# EAGLE library part HEF4030BT (library NXP_By_element14_Batch_1)
Quadruple exclusive-OR gate
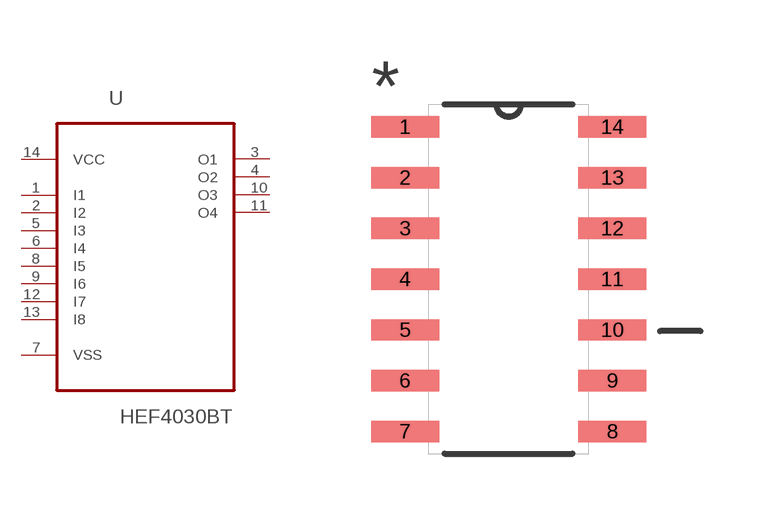
[diagram p250: symbol with the pads of SOIC127P600X175-14N; footprint SOIC127P600X175-14N]

Designator prefix U

## HEF4030BT (MPN: HEF4030BT; OC_FARNELL: 1201267; OC_NEWARK: 25M9616; PACKAGE: SOIC-14; SUPPLIER: NXP)  [SOIC127P600X175-14N]
1  I1  in
2  I2  in
3  O1  out
4  O2  out
5  I3  in
6  I4  in
7  VSS  pas
8  I5  in
9  I6  in
10  O3  out
11  O4  out
12  I7  in
13  I8  in
14  VCC  pwr

## Footprint SOIC127P600X175-14N (pad centres in mm)
smd 1.702 x 0.533: 1 -2.591,3.81; 2 -2.591,2.54; 3 -2.591,1.27; 4 -2.591,0; 5 -2.591,-1.27; 6 -2.591,-2.54; 7 -2.591,-3.81; 8 2.591,-3.81; 9 2.591,-2.54; 10 2.591,-1.27; 11 2.591,0; 12 2.591,1.27; 13 2.591,2.54; 14 2.591,3.81